# Altium schematic symbol library sn74lvc1g08dbvr.SchLib: 1 symbol
Pins are listed as number, name and electrical type; pins without a type are passive.

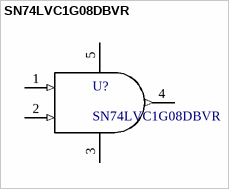
[diagram p0: symbol SN74LVC1G08DBVR]

## SN74LVC1G08DBVR
designator U?
1-ch, 2-input 1.65-V to 5.5-V 32 mA drive strength AND gate 5-SOT-23 -40 to 125; Manufacturer_Name: Texas Instruments; Alternate_PartNumber: SN74LVC1G08DBVT; CompType: IC; TYPE: TYPE; RefDes: RefDes; Copyright: Copyright (C) 2026 Ultra Librarian. All rights reserved.; Manufacturer_Part_Number: SN74LVC1G08DBVR; Application_BuildNumber: *; PartNumber: SN74LVC1G08DBVR; PackageReference: DBV0005A; MountType: SMT; RoHS: Y; Manufacturer: Texas Instruments
footprint DBV0005A_N
pins: 1 A (in), 2 B (in), 3 V- (power), 4 Y (out), 5 V+ (power)